# Altium schematic symbol library PHANTOM_LIBRARY.SchLib: 61 symbols (part 3 of 3)
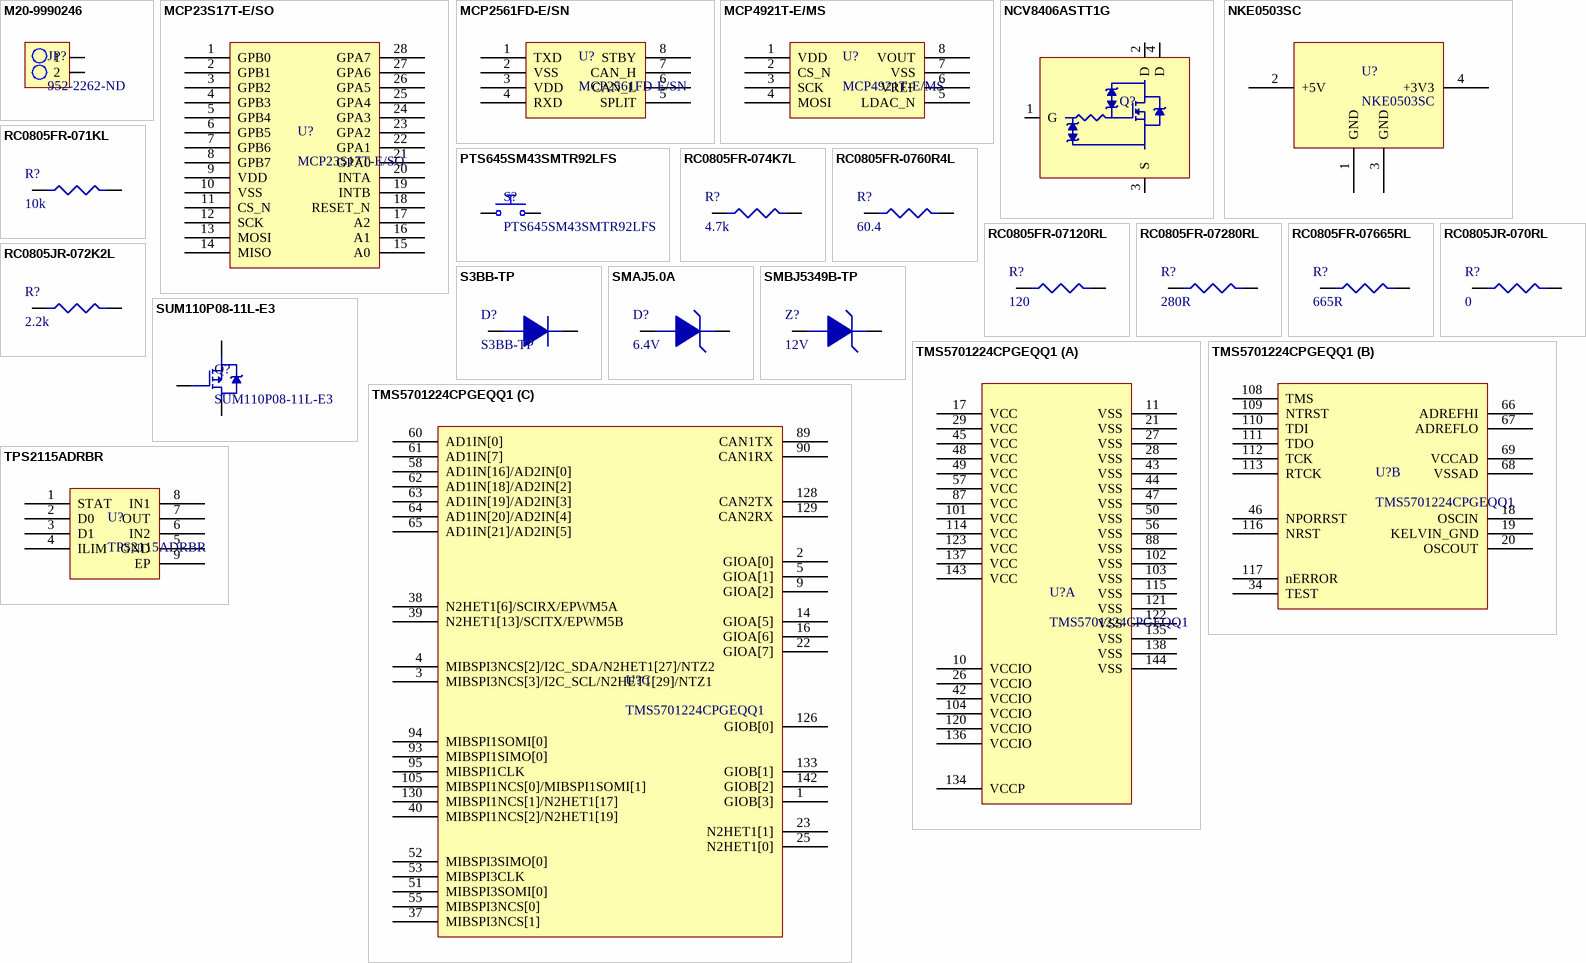
[diagram p3: symbols M20-9990246 to TPS2115ADRBR]

## SMBJ5349B-TP
designator Z?, comment 12V
DIODE ZENER 12V 5W DO214AA; Manufacturer: MCC; Manufacturer Part Number: SMBJ5349B-TP; Tolerance: 5%; Forward Voltage: 1.2V; Max Reverse Leakage Current: 2uA; Impedance: 2.5R; Zener Current: 395mA; Test Current: 100mA; Element Configuration: Single; Supplier 1: Digi-Key; Stock 1: 41768; Pricing 1: 1=0.65, 10=0.57, 25=0.5044, 100=0.4394, 250=0.3824, 500=0.3255, 1000=0.2604 (USD); Mount: Surface Mount; Case/Package: SMB; Number of Pins: 2; Min Operating Temperature: -55°C; Max Operating Temperature: 150°C; Package Quantity: 3000; Packaging: Tape and Reel; Power Dissipation: 5W; Zener Voltage: 12V; Voltage Tolerance: 5%; Max Power Dissipation: 5W; Working Voltage: 12V; Peak Reverse Current: 2uA; Radiation Hardening: No; Lead Free: Lead Free; ComponentLink1URL: https://datasheet.ciiva.com/894/smbj5338b-smbj5388bsmb-894182.pdf; ComponentLink1Description: https://datasheet.ciiva.com/894/smbj5338b-smbj5388bsmb-894182.pdf; ComponentLink2URL: https://datasheet.ciiva.com/894/smbj5338b-smbj5388bsmb-894183.pdf; ComponentLink2Description: https://datasheet.ciiva.com/894/smbj5338b-smbj5388bsmb-894183.pdf; ComponentLink3URL: https://datasheet.ciiva.com/894/smbj5338b-smbj5388bsmb-894184.pdf; ComponentLink3Description: https://datasheet.ciiva.com/894/smbj5338b-smbj5388bsmb-894184.pdf; ComponentLink4URL: https://datasheet.ciiva.com/17444/smbj5338b-smbj5388bsmb-17444298.pdf; ComponentLink4Description: https://datasheet.ciiva.com/17444/smbj5338b-smbj5388bsmb-17444298.pdf; ComponentLink5URL: https://datasheet.ciiva.com/26844/getdatasheetpartid-147575-26844923.pdf; ComponentLink5Description: https://datasheet.ciiva.com/26844/getdatasheetpartid-147575-26844923.pdf; Supplier Part Number 1: SMBJ5349B-TPMSDKR-ND
footprint DO-214AA_Diode (Molded Diode, 2-Leads, Body 5.33x3.62mm, IPC Medium Density)
pins: 1, 2

## SUM110P08-11L-E3
designator Q?
MOSFET P-CH 80V 23.5A 3-Pin(2+Tab) TO-263; Manufacturer: Vishay; Drain to Source Voltage (Vdss): -80V; Threshold Voltage: -3V; Max Power Dissipation: 375W; Number of Elements: 1; Power Dissipation: 13.6W; Gate to Source Voltage (Vgs): 20V; Fall Time: 550ns; Turn-On Delay Time: 20ns; Rise Time: 330ns; Turn-Off Delay Time: 135ns; Drain to Source Resistance: 11.1mR; Supplier 1: Digi-Key; Manufacturer Part Number: SUM110P08-11L-E3; Stock 1: 11394; Pricing 1: 1=5.01, 10=4.503, 25=4.2572, 100=3.6896, 250=3.5004 (USD); Mount: Surface Mount; Case/Package: TO-263; Number of Pins: 3; Contact Plating: Tin,Matte; Min Operating Temperature: -50°C; Max Operating Temperature: 175°C; Continuous Drain Current (ID): 23.5A; Packaging: Tape and Reel; REACH SVHC: No SVHC; Lead Free: Lead Free; ComponentLink1URL: https://datasheet.ciiva.com/25652/sum110p0-25652054.pdf; ComponentLink1Description: https://datasheet.ciiva.com/25652/sum110p0-25652054.pdf; Supplier Part Number 1: SUM110P08-11L-E3CT-ND
footprint D2PAK_FETs (D2-PAK, 3-Pads, Body 7.65x8.36mm (max), IPC Medium Density)
pins: 1, 3, 4

## TMS5701224CPGEQQ1
designator U?
ARM CORTEX R4 LOCK STEP HERCULES MCU; Manufacturer: Texas Instruments; Frequency: 160MHz; Interface: I2C,SPI,CAN,UART,USART,LIN,SCI,EBI/EMI; Number of I/Os: 64; Oscillator Type: External; RAM Size: 192KB; Number of Timers/Counters: 2; Watchdog Timer: Yes; Memory Type: FLASH; Memory Size: 1.25MB; Density: 1310720B; Peripherals: POR,PWM,WDT,DMA; Supplier 1: Digi-Key; Manufacturer Part Number: TMS5701224CPGEQQ1; Stock 1: 113; Pricing 1: 1=22.12, 10=20.402, 100=17.4222, 500=15.8176 (USD); Case/Package: LQFP; Number of Pins: 144; Min Operating Temperature: -40°C; Max Operating Temperature: 125°C; Packaging: Tray; Number of Programmable I/O: 64; Max Frequency: 160MHz; Number of GPIO: 64; Core Architecture: ARM; Lead Free: Lead Free; ComponentLink1URL: http://www.ti.com/lit/pdf/spnu515; ComponentLink1Description: http://www.ti.com/lit/pdf/spnu515; ComponentLink2URL: http://www.ti.com/lit/gpn/tms570ls1224; ComponentLink2Description: http://www.ti.com/lit/gpn/tms570ls1224; ComponentLink3URL: http://www.ti.com/general/docs/lit/getliterature.tsp?genericPartNumber=TMS570LS1224&&fileType=pdf; ComponentLink3Description: http://www.ti.com/general/docs/lit/getliterature.tsp?genericPartNumber=TMS570LS1224&&fileType=pdf; Supplier Part Number 1: 296-47200-ND
footprint LQFP-144 (TSQFP, 144-Leads, Body 20.00x20.00mm, Pitch 0.50mm, IPC Medium Density)
part A pins: 10 VCCIO, 11 VSS, 17 VCC, 21 VSS, 26 VCCIO, 27 VSS, 28 VSS, 29 VCC, 42 VCCIO, 43 VSS, 44 VSS, 45 VCC, 47 VSS, 48 VCC, 49 VCC, 50 VSS, 56 VSS, 57 VCC, 87 VCC, 88 VSS, 101 VCC, 102 VSS, 103 VSS, 104 VCCIO, 114 VCC, 115 VSS, 120 VCCIO, 121 VSS, 122 VSS, 123 VCC, 134 VCCP, 135 VSS, 136 VCCIO, 137 VCC, 138 VSS, 143 VCC, 144 VSS
part B pins: 18 OSCIN, 19 KELVIN_GND, 20 OSCOUT, 34 TEST, 46 NPORRST, 66 ADREFHI, 67 ADREFLO, 68 VSSAD, 69 VCCAD, 108 TMS, 109 NTRST, 110 TDI, 111 TDO, 112 TCK, 113 RTCK, 116 NRST, 117 nERROR
part C pins: 1 GIOB[3], 2 GIOA[0], 3 MIBSPI3NCS[3]/I2C_SCL/N2HET1[29]/NTZ1, 4 MIBSPI3NCS[2]/I2C_SDA/N2HET1[27]/NTZ2, 5 GIOA[1], 9 GIOA[2], 14 GIOA[5], 16 GIOA[6], 22 GIOA[7], 23 N2HET1[1], 25 N2HET1[0], 37 MIBSPI3NCS[1], 38 N2HET1[6]/SCIRX/EPWM5A, 39 N2HET1[13]/SCITX/EPWM5B, 40 MIBSPI1NCS[2]/N2HET1[19], 51 MIBSPI3SOMI[0], 52 MIBSPI3SIMO[0], 53 MIBSPI3CLK, 55 MIBSPI3NCS[0], 58 AD1IN[16]/AD2IN[0], 60 AD1IN[0], 61 AD1IN[7], 62 AD1IN[18]/AD2IN[2], 63 AD1IN[19]/AD2IN[3], 64 AD1IN[20]/AD2IN[4], 65 AD1IN[21]/AD2IN[5], 89 CAN1TX, 90 CAN1RX, 93 MIBSPI1SIMO[0], 94 MIBSPI1SOMI[0], 95 MIBSPI1CLK, 105 MIBSPI1NCS[0]/MIBSPI1SOMI[1], 126 GIOB[0], 128 CAN2TX, 129 CAN2RX, 130 MIBSPI1NCS[1]/N2HET1[17], 133 GIOB[1], 142 GIOB[2]

## TPS2115ADRBR
designator U?
IC OR CTRLR SRC SELECT 8SON; Manufacturer: Texas Instruments; Operating Supply Voltage: 5.5V; Number of Inputs: 2; Number of Outputs: 1; Output Current: 1.25A; Max Power Dissipation: 2.5W; Min Input Voltage: 2.8V; On-State Resistance: 150mR; Turn-On Delay Time: 1ms; Turn-Off Delay Time: 5ms; Max Supply Current: 55uA; Supplier 1: Digi-Key; Manufacturer Part Number: TPS2115ADRBR; Stock 1: 13497; Pricing 1: 1=2.01, 10=1.801, 100=1.448, 500=1.1897, 1000=0.9857 (USD); Case/Package: TSSOP; Number of Pins: 8; Weight: 0.000847oz; Min Operating Temperature: -40°C; Max Operating Temperature: 85°C; Package Quantity: 3000; Packaging: Tape and Reel; Max Output Current: 1.25A; Max Input Voltage: 5.5V; Operating Supply Current: 55uA; Current - Output 2: 1.25A; Radiation Hardening: No; Lead Free: Lead Free; REACH SVHC: No SVHC; ComponentLink1URL: https://datasheet.ciiva.com/15109/getdatasheetpartid-221489-15109265.pdf; ComponentLink1Description: https://datasheet.ciiva.com/15109/getdatasheetpartid-221489-15109265.pdf; ComponentLink2URL: https://datasheet.ciiva.com/1960/tps2115a-1960792.pdf; ComponentLink2Description: https://datasheet.ciiva.com/1960/tps2115a-1960792.pdf; ComponentLink3URL: https://datasheet.ciiva.com/3232/tps2115a-3232536.pdf; ComponentLink3Description: https://datasheet.ciiva.com/3232/tps2115a-3232536.pdf; ComponentLink4URL: https://datasheet.ciiva.com/1960/tps2115a-1960793.pdf; ComponentLink4Description: https://datasheet.ciiva.com/1960/tps2115a-1960793.pdf; ComponentLink5URL: https://datasheet.ciiva.com/1960/tps2115a-1960794.pdf; ComponentLink5Description: https://datasheet.ciiva.com/1960/tps2115a-1960794.pdf; Supplier Part Number 1: 296-23394-1-ND
footprint VSON-8 (SON, 8-Leads, Body 3.00x3.00mm, Pitch 0.65mm, Thermal Pad 2.40x1.49mm, IPC Medium Density)
pins: 1 STAT, 2 D0, 3 D1, 4 ILIM, 5 GND, 6 IN2, 7 OUT, 8 IN1, 9 EP